# Altium integrated library 5730_LED.IntLib: 1 symbol
Pins are listed as number, name and electrical type; pins without a type are passive.

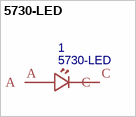
[diagram p0: symbol 5730-LED]

## 5730-LED
designator 1
Contributor: wystewart; spicePre: ?; spiceSymbolName: 5730-LED
footprint 5730-LED
pins: A, C